# EAGLE library part 2091-1356 (library con-wago_3.5 mm)
Serie 2091, Federleiste eCOM mit abgewinkelten Lötstiften mit Griffplatte / Series 2091, eCOM pluggable PCB connector with angled solder pins with gripping plate Polzahl / Pole No.: 6 Rastermaß / Pitch: 3.5 mm Bemessungsspannung / Rated Voltage: 160 V Nennstrom / Nominal Current: 10 A Leiterquerschnitt / Conductor Size: 0.2 - 1.5 mm² Anschlusstechnik / Connection Technology: CAGE CLAMP® S Lötstiftlänge: / Solder Pin Length: 3.6 mm Farbe / Color: lichtgrau / light gray Stand: 01.01.2013. Die jeweils aktuellen Daten zu diesem Artikel finden Sie in unserem Produktkatalog, den Sie unter www.wago.com einsehen können. As of: 01/01/2013. Please find the newest data for this article in our product catalogue, which can be viewed under www.wago.com.
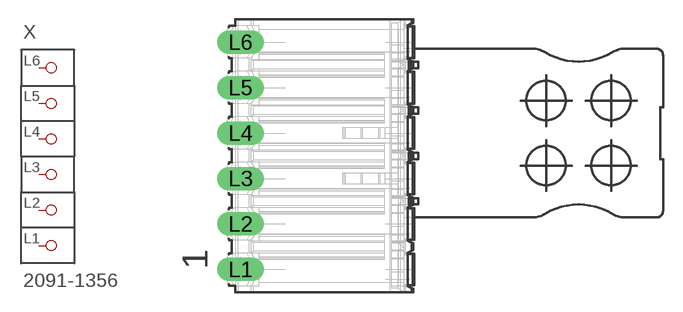
[diagram p24: symbol with the pads of P-2091-1356; footprint P-2091-1356]

Designator prefix X

## 2091-1356  [P-2091-1356]
L1  P1
L2  P2
L3  P3
L4  P4
L5  P5
L6  P6

## Footprint P-2091-1356 (pad centres in mm)
drill 1.2 long: L1 -15.65,-8.75; L2 -15.65,-5.25; L3 -15.65,-1.75; L4 -15.65,1.75; L5 -15.65,5.25; L6 -15.65,8.75